# Altium footprint library PCB - LEADLESS - DFN - STM DFN-8 2x2MM.PcbLib: 1 footprints
Each footprint in its own frame and in the unit in brackets; x right, y up, seen from the top. Pads: shape width x height; smd on the part's side, far side on the other; paste and mask are expansions set on the pad; w line width, h text height; cw(c..) or ccw(c..) is an arc to the next point about the centre after c.
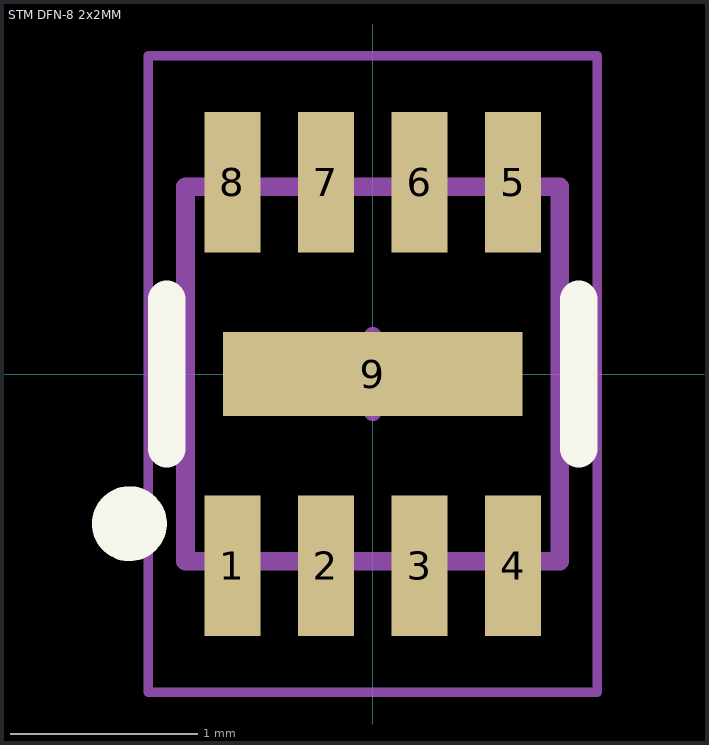
[diagram p0: the footprint, top view; thin cyan lines are the x and y axes]

## STM DFN-8 2x2MM [mm] "DFN-8, 8-Leads, Body 2x2mm, Pitch 0.5mm, STM LMX358IQ2T"
height 0.55
pads (9):
  rect 0.3x0.75 smd mask+0.1: 1(-0.75,-1.025) 2(-0.25,-1.025) 3(0.25,-1.025) 4(0.75,-1.025) 5(0.75,1.025) 6(0.25,1.025) 7(-0.25,1.025) 8(-0.75,1.025)
  rect 1.6x0.45 smd mask+0.1: 9(0,0)
Top Overlay:
  circle w0.2: c-1.3,-0.8 r0.1
  lines w0.2: -1.1,-0.4 -1.1,0.4 ; 1.1,-0.4 1.1,0.4
Mechanical 13:
  lines w0.1: -1,-1 -1,1 1,1 1,-1 -1,-1
Mechanical 15 (Mech15):
  lines w0.05: -1.2,-1.7 -1.2,1.7 1.2,1.7 1.2,-1.7 -1.2,-1.7
  lines w0.1: -0.2,0 0,0 0.2,0 ; 0,-0.2 0,0.2
3D body "STM - DFN-8 - AMS00019_V1.step": height 0.6, standoff 0, extent -1,-1.001 1,1.001